# EAGLE library part 691401710023 (library Wurth_Elektronik_Electromechanic_Terminal_Blocks_Connectors_rev15c)
WR-TBL Terminal block - serie 401 5,0mm - Spring clamp/Screw less - horizontal entry - 23p Code:Con_TBL_Screwless_5.00_6914017100xxB_691401710023 <http://katalog.we-online.de/media/images/eican/Con_TBL_Screwless_5.00_6914017100xxB_pf2.jpg> Details see: http://katalog.we-online.de/en/em/691_401_710_0xx/691_401_710_023B?m Created 2014-12-22, aslant tao 2014 (C) Würth Elektronik
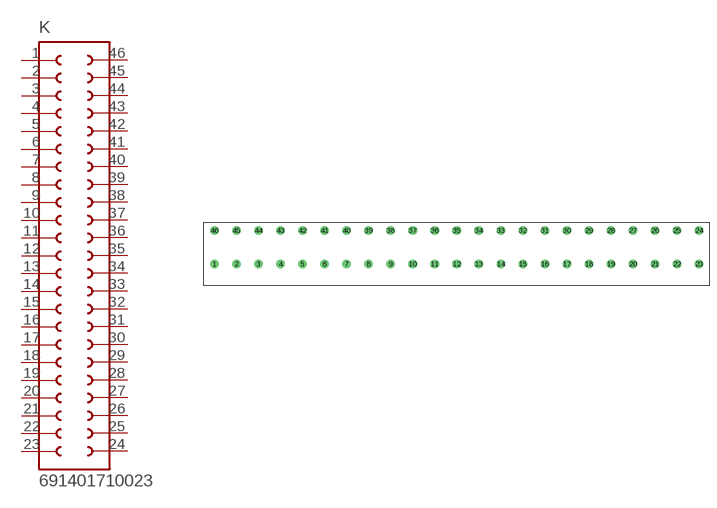
[diagram p252: symbol with the pads of 691401710023; footprint 691401710023]

Designator prefix K

## 691401710023  [691401710023]
1  1  pas
2  2  pas
3  3  pas
4  4  pas
5  5  pas
6  6  pas
7  7  pas
8  8  pas
9  9  pas
10  10  pas
11  11  pas
12  12  pas
13  13  pas
14  14  pas
15  15  pas
16  16  pas
17  17  pas
18  18  pas
19  19  pas
20  20  pas
21  21  pas
22  22  pas
23  23  pas
24  24  pas
25  25  pas
26  26  pas
27  27  pas
28  28  pas
29  29  pas
30  30  pas
31  31  pas
32  32  pas
33  33  pas
34  34  pas
35  35  pas
36  36  pas
37  37  pas
38  38  pas
39  39  pas
40  40  pas
41  41  pas
42  42  pas
43  43  pas
44  44  pas
45  45  pas
46  46  pas

## Footprint 691401710023 (pad centres in mm)
WR-TBL Serie 401 - 5.0mm Screwless Horizontal Entry - 2 mm2 Wires, 23 Pins
drill 1.3: 1 -60,0; 2 -55,0; 3 -50,0; 4 -45,0; 5 -40,0; 6 -35,0; 7 -30,0; 8 -25,0; 9 -20,0; 10 -15,0; 11 -10,0; 12 -5,0; 13 0,0; 14 5,0; 15 10,0; 16 15,0; 17 20,0; 18 25,0; 19 30,0; 20 35,0; 21 40,0; 22 45,0; 23 50,0; 24 50,7.62; 25 45,7.62; 26 40,7.62; 27 35,7.62; 28 30,7.62; 29 25,7.62; 30 20,7.62; 31 15,7.62; 32 10,7.62; 33 5,7.62; 34 0,7.62; 35 -5,7.62; 36 -10,7.62; 37 -15,7.62; 38 -20,7.62; 39 -25,7.62; 40 -30,7.62; 41 -35,7.62; 42 -40,7.62; 43 -45,7.62; 44 -50,7.62; 45 -55,7.62; 46 -60,7.62